# Altium footprint library WREL_AD10_Ben.PcbLib: 135 footprints (part 8 of 9)
Each footprint in its own frame and in the unit in brackets; x right, y up, seen from the top. Pads: shape width x height; smd on the part's side, far side on the other; paste and mask are expansions set on the pad; w line width, h text height; cw(c..) or ccw(c..) is an arc to the next point about the centre after c.
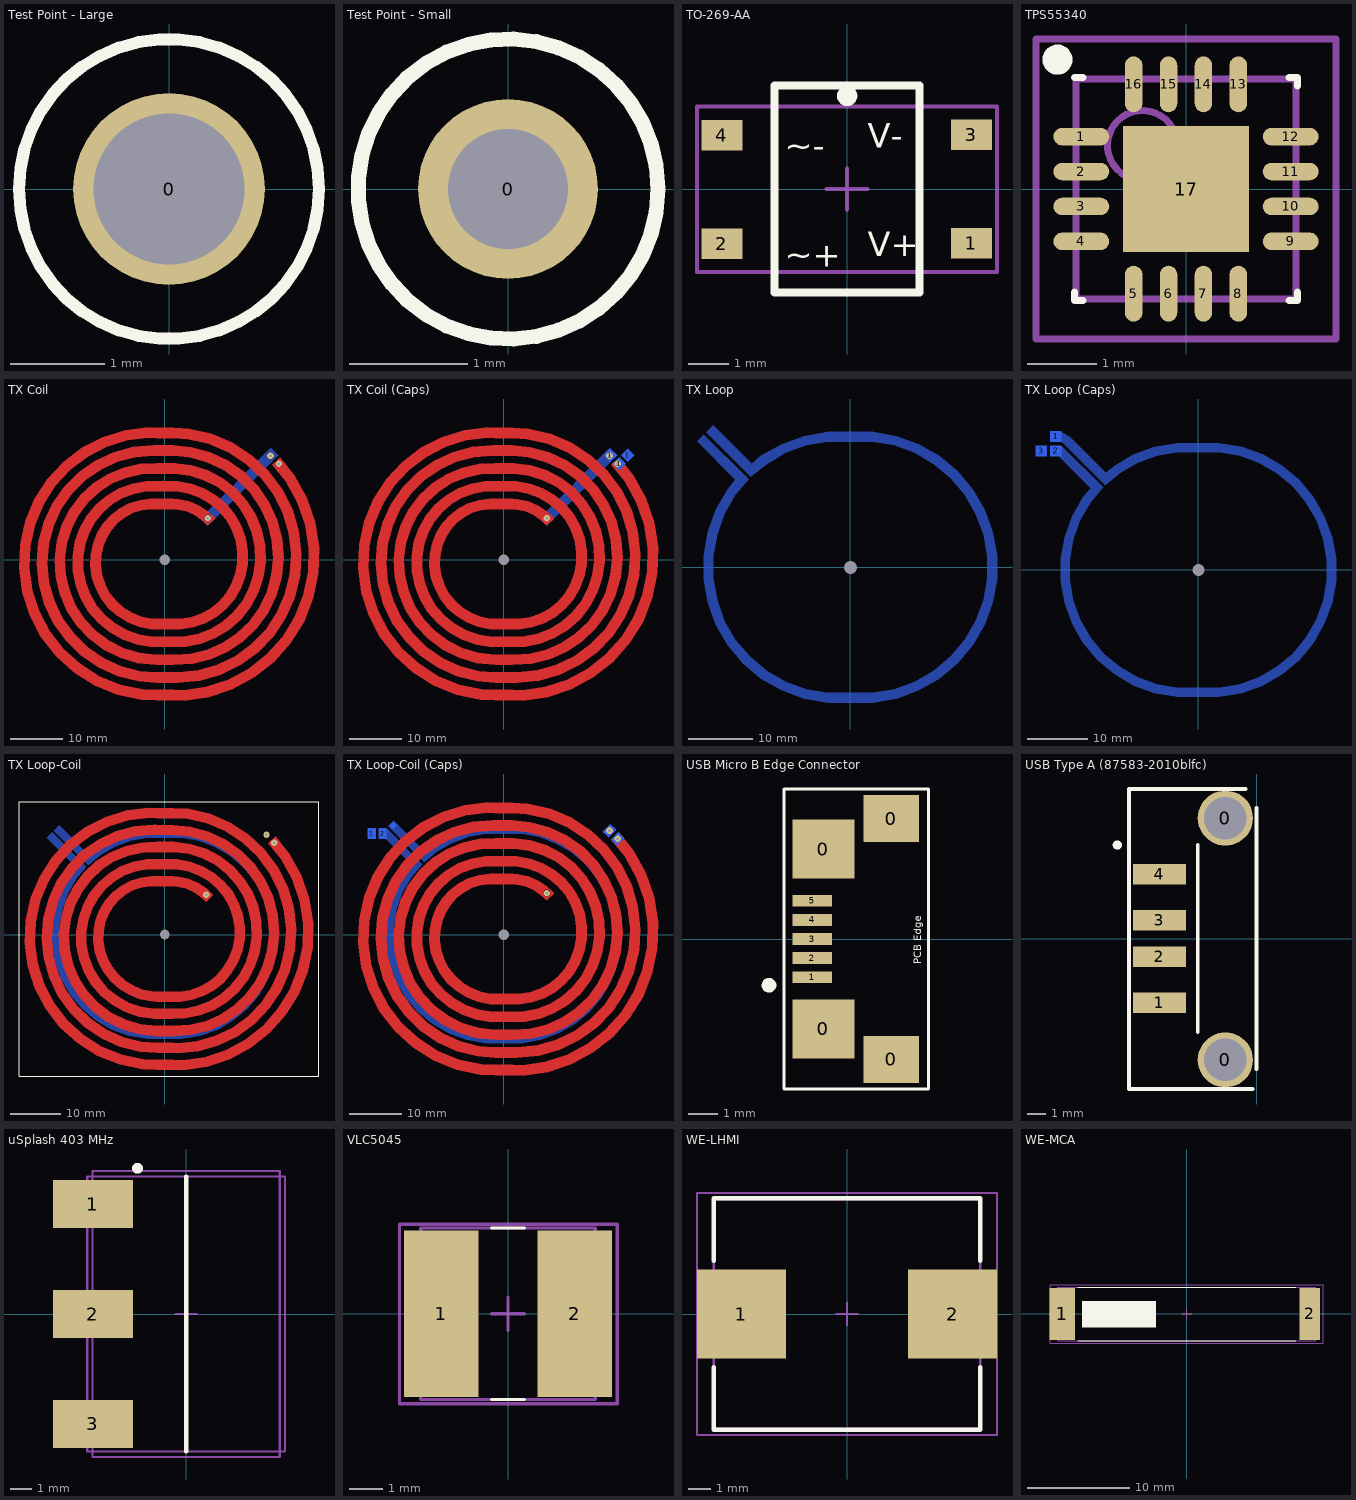
[diagram p7: the footprints below, top view; thin cyan lines are the x and y axes]

## Test Point - Large [mil] "Test Point, 63mil hole, example DK: 5012K-ND"
pads (1):
  round 80 hole 63: 0(0,0)
Top Overlay:
  circle w5: c0,0 r62.5

## Test Point - Small [mil] "Test Point, 40mil hole, example DK: 5000K-ND"
pads (1):
  round 60 hole 40: 0(0,0)
Top Overlay:
  circle w5: c0,0 r50

## TO-269-AA [mm]
pads (4):
  rect 1x0.75 smd: 1(3.056,-1.33) 2(-3.071,-1.345) 3(3.056,1.337) 4(-3.071,1.322)
Top Overlay:
  circle w0.25: c0.002,2.286 r0.125
  lines w0.2: -1.778,-2.54 -1.778,2.54 1.778,2.54 1.778,-2.54 -1.778,-2.54
  text "V+" at 0.508,-1.651 h0.6
  text "V-" at 0.508,1.016 h0.6
  text "~+" at -1.524,-1.905 h0.6
  text "~-" at -1.524,0.762 h0.6
Mechanical 15:
  lines w0.1: -0.5,0 0.5,0 ; 0,-0.5 0,0.5 ; -3.683,-2.041 -3.683,2.022 3.683,2.022 3.683,-2.041 -3.683,-2.041
3D body: height 1.55, standoff 0, extent 2.007,0.991 3.531,1.651
3D body: height 1.55, standoff 0, extent 2.007,-1.676 3.531,-1.016
3D body: height 1.55, standoff 0, extent -3.53,-1.676 -2.006,-1.016
3D body: height 1.55, standoff 0, extent -3.531,0.991 -2.007,1.651
3D body: height 2.65, standoff 0.15, extent -2.007,-2.362 2.007,2.362

## TPS55340 [mm] "TPS55340"
height 0.8
pads (17):
  oval 0.8x0.25 smd: 1(-1.5,0.75) 2(-1.5,0.25) 3(-1.5,-0.25) 4(-1.5,-0.75) 9(1.5,-0.75) 10(1.5,-0.25) 11(1.5,0.25) 12(1.5,0.75)
  oval 0.25x0.8 smd: 5(-0.75,-1.5) 6(-0.25,-1.5) 7(0.25,-1.5) 8(0.75,-1.5) 13(0.75,1.5) 14(0.25,1.5) 15(-0.25,1.5) 16(-0.75,1.5)
  rect 1.8x1.8 smd: 17(0,0)
Top Overlay:
  circle w0.25: c-1.843,1.854 r0.091
  lines w0.1: -1.6,-1.475 -1.6,-1.6 -1.475,-1.6 ; -1.6,1.6 -1.475,1.6 ; 1.475,-1.6 1.6,-1.6 1.6,-1.475 ; 1.475,1.6 1.6,1.6 1.6,1.475
Mechanical 13:
  circle w0.1: c-0.625,0.625 r0.5
  lines w0.1: -1.575,-1.575 -1.575,1.575 1.575,1.575 1.575,-1.575 -1.575,-1.575
Mechanical 15:
  lines w0.1: -0.5,0 0.5,0 ; 0,-0.5 0,0.5 ; -2.15,-2.15 -2.15,2.15 2.15,2.15 2.15,-2.15 -2.15,-2.15
3D body: height 0.8, standoff 0.05, extent -1.575,-1.575 1.575,1.575

## TX Coil [mm] "Songnan TX Coil (5.78 x 5.25cm) only"
pads (1):
  round 0 hole 2 unplated: 0(0,0)
via 21.946,18.44 diameter 1.27 hole 0.508
via 20.396,20.015 diameter 1.27 hole 0.508
via 8.306,8.001 diameter 1.27 hole 0.508
Top Layer:
  region: 412 vertices and 1 holes, not listed, extent -28.092,-27.178 29.743,25.476
Bottom Layer:
  region: 20.536,21.5 21.87,20.142 8.369,6.642 8.242,6.642 6.909,7.975 20.181,21.274 20.409,21.501 hole: 20.396,20.663 20.148,20.613 19.938,20.473 19.798,20.263 19.749,20.015 19.798,19.767 19.938,19.557 20.148,19.417 20.396,19.368 20.644,19.417 20.854,19.557 20.994,19.767 21.044,20.015 20.994,20.263 20.854,20.473 20.644,20.613 hole: 8.306,8.648 8.058,8.599 7.848,8.459 7.708,8.249 7.658,8.001 7.708,7.753 7.848,7.543 8.058,7.403 8.306,7.354 8.554,7.403 8.764,7.543 8.904,7.753 8.953,8.001 8.904,8.249 8.764,8.459 8.554,8.599

## TX Coil (Caps) [mil] "Songnan TX Coil (5.78 x 5.25cm) with series and parallel caps"
pads (4):
  round 0 hole 78.74 unplated: 0(0,0)
  rect 70x70 smd far side rot 135: 1(810.41,791.65) 1(876.17,725.89) 1(942.28,792)
via 327,315 diameter 50 hole 20
via 803,788 diameter 50 hole 20
via 864,726 diameter 50 hole 20
Top Layer:
  region: 393 vertices and 0 holes, not listed, extent -1106,-1070 1171,1003
Bottom Layer:
  region: 808.49,846.47 812.08,842.81 810.41,841.14 760.91,791.65 807.79,744.77 807.79,739.77 329.5,261.48 324.5,261.48 271.99,313.99 794.54,837.54 803.49,846.49 hole: 327,340.49 317.25,338.55 308.98,333.02 303.45,324.75 301.51,315 303.45,305.25 308.98,296.98 317.25,291.45 327,289.51 336.75,291.45 345.02,296.98 350.55,305.25 352.49,315 350.55,324.75 345.02,333.02 336.75,338.55

## TX Loop [mm] "Songnan TX Loop (4.53 x 4.18cm) only"
pads (1):
  round 0 hole 2 unplated: 0(0,0)
Bottom Layer:
  region: -15.24,15.977 -13.792,17.196 -10.617,19.025 -7.188,20.269 -3.581,20.904 3.556,20.904 7.163,20.269 10.592,19.025 13.767,17.196 16.586,14.834 18.923,12.04 20.752,8.865 22.022,5.41 22.657,1.829 22.657,-1.829 22.022,-5.41 20.752,-8.865 18.923,-12.04 16.586,-14.834 13.767,-17.196 10.592,-19.025 7.163,-20.269 3.556,-20.904 -3.581,-20.904 -7.188,-20.269 -10.617,-19.025 -13.792,-17.196 -16.586,-14.834 -18.948,-12.04 -20.777,-8.865 -22.022,-5.41 -22.657,-1.829 -22.657,1.829 -22.022,5.41 -20.777,8.865 -18.948,12.04 -17.729,13.487 -23.673,19.431 -22.606,20.498 -15.697,13.589 -17.729,11.176 -19.431,8.23 -20.574,5.029 -21.184,1.676 -21.184,-1.676 -20.574,-5.029 -19.431,-8.23 -17.729,-11.176 -15.545,-13.767 -12.929,-15.951 -9.982,-17.653 -6.782,-18.821 -3.454,-19.406 3.429,-19.406 6.782,-18.821 9.957,-17.653 12.903,-15.951 15.519,-13.767 17.704,-11.176 19.406,-8.23 20.574,-5.029 21.158,-1.676 21.158,1.676 20.574,5.029 19.406,8.23 17.704,11.176 15.519,13.767 12.903,15.951 9.957,17.653 6.782,18.821 3.429,19.406 -3.454,19.406 -6.782,18.821 -9.982,17.653 -12.929,15.951 -15.342,13.945 -22.25,20.853 -21.184,21.92

## TX Loop (Caps) [mil] "Songnan TX Loop (4.53 x 4.18cm) with series and parallel caps"
pads (4):
  round 0 hole 78.74 unplated: 0(0,0)
  rect 70x70 smd far side: 1(-924.74,865.32) 2(-924.74,771.82) 3(-1017.74,771.82)
Bottom Layer:
  region: -926.67,871 -890,831 -867.33,813 -832,861 -894,900
  region: -600,629 -543,677 -418,749 -283,798 -141,823 140,823 282,798 417,749 542,677 653,584 745,474 817,349 867,213 892,72 892,-72 867,-213 817,-349 745,-474 653,-584 542,-677 417,-749 282,-798 140,-823 -141,-823 -283,-798 -418,-749 -543,-677 -653,-584 -746,-474 -818,-349 -867,-213 -892,-72 -892,72 -867,213 -818,349 -746,474 -698,531 -899.2,732.2 -897.29,736.82 -889.74,736.82 -889.74,800.2 -885.12,802.12 -618,535 -698,440 -765,324 -810,198 -834,66 -834,-66 -810,-198 -765,-324 -698,-440 -612,-542 -509,-628 -393,-695 -267,-741 -136,-764 135,-764 267,-741 392,-695 508,-628 611,-542 697,-440 764,-324 810,-198 833,-66 833,66 810,198 764,324 697,440 611,542 508,628 392,695 267,741 135,764 -136,764 -267,741 -393,695 -509,628 -604,549 -867.65,812.65 -867.33,813 -832,861 -833.91,862.2 -833.43,862.43

## TX Loop-Coil [mm] "Songnan TX Loop (4.53 x 4.18cm) and Coil (5.78 x 5.25cm) only"
pads (1):
  round 0 hole 2 unplated: 0(0,0)
via 21.946,18.44 diameter 1.27 hole 0.508
via 20.396,20.015 diameter 1.27 hole 0.508
via 8.306,8.001 diameter 1.27 hole 0.508
Top Layer:
  region: 393 vertices and 0 holes, not listed, extent -28.092,-27.178 29.743,25.476
Mid-Layer 1:
  region: 20.536,21.5 21.87,20.142 8.369,6.642 8.242,6.642 6.909,7.975 20.181,21.274 20.409,21.501
Bottom Layer:
  region: -15.24,15.977 -13.792,17.196 -10.617,19.025 -7.188,20.269 -3.581,20.904 3.556,20.904 7.163,20.269 10.592,19.025 13.767,17.196 16.586,14.834 18.923,12.04 20.752,8.865 22.022,5.41 22.657,1.829 22.657,-1.829 22.022,-5.41 20.752,-8.865 18.923,-12.04 16.586,-14.834 13.767,-17.196 10.592,-19.025 7.163,-20.269 3.556,-20.904 -3.581,-20.904 -7.188,-20.269 -10.617,-19.025 -13.792,-17.196 -16.586,-14.834 -18.948,-12.04 -20.777,-8.865 -22.022,-5.41 -22.657,-1.829 -22.657,1.829 -22.022,5.41 -20.777,8.865 -18.948,12.04 -17.729,13.487 -23.673,19.431 -22.606,20.498 -15.697,13.589 -17.729,11.176 -19.431,8.23 -20.574,5.029 -21.184,1.676 -21.184,-1.676 -20.574,-5.029 -19.431,-8.23 -17.729,-11.176 -15.545,-13.767 -12.929,-15.951 -9.982,-17.653 -6.782,-18.821 -3.454,-19.406 3.429,-19.406 6.782,-18.821 9.957,-17.653 12.903,-15.951 15.519,-13.767 17.704,-11.176 19.406,-8.23 20.574,-5.029 21.158,-1.676 21.158,1.676 20.574,5.029 19.406,8.23 17.704,11.176 15.519,13.767 12.903,15.951 9.957,17.653 6.782,18.821 3.429,19.406 -3.454,19.406 -6.782,18.821 -9.982,17.653 -12.929,15.951 -15.342,13.945 -22.25,20.853 -21.184,21.92
Top Overlay:
  lines w0.127: -29.235,-28.346 -29.235,26.619 30.937,26.619 30.937,-28.346 -29.235,-28.346

## TX Loop-Coil (Caps) [mil] "Songnan TX Loop (4.53 x 4.18cm) and Coil (5.78 x 5.25cm) with Capacitor banks"
pads (6):
  round 0 hole 78.74 unplated: 0(0,0)
  rect 60x80 smd far side: 1(-1001.17,766.98) 2(-920,767)
  rect 40x40 smd far side rot 135 paste-40 mask-40: 2(-840,828)
  rect 80x60 smd far side rot 45: ""(803,788) ""(864,726)
via 327,315 diameter 50 hole 20
via 803,788 diameter 50 hole 20
via 864,726 diameter 50 hole 20
Top Layer:
  region: 412 vertices and 1 holes, not listed, extent -1106,-1070 1171,1003
Mid-Layer 1:
  region: 808.49,846.47 861.01,793.01 861.02,793 861.01,792.99 329.5,261.48 324.5,261.48 271.99,313.99 794.54,837.54 803.49,846.49 hole: 803,813.49 793.25,811.55 784.98,806.02 779.45,797.75 777.51,788 779.45,778.25 784.98,769.98 793.25,764.45 803,762.51 812.75,764.45 821.02,769.98 826.55,778.25 828.49,788 826.55,797.75 821.02,806.02 812.75,811.55 hole: 327,340.49 317.25,338.55 308.98,333.02 303.45,324.75 301.51,315 303.45,305.25 308.98,296.98 317.25,291.45 327,289.51 336.75,291.45 345.02,296.98 350.55,305.25 352.49,315 350.55,324.75 345.02,333.02 336.75,338.55
Bottom Layer:
  region: -600,629 -543,677 -418,749 -283,798 -141,823 140,823 282,798 417,749 542,677 653,584 745,474 817,349 867,213 892,72 892,-72 867,-213 817,-349 745,-474 653,-584 542,-677 417,-749 282,-798 140,-823 -141,-823 -283,-798 -418,-749 -543,-677 -653,-584 -746,-474 -818,-349 -867,-213 -892,-72 -892,72 -867,213 -818,349 -746,474 -698,531 -891.17,724.17 -890,727 -890,800.47 -885.38,802.38 -618,535 -698,440 -765,324 -810,198 -834,66 -834,-66 -810,-198 -765,-324 -698,-440 -612,-542 -509,-628 -393,-695 -267,-741 -136,-764 135,-764 267,-741 392,-695 508,-628 611,-542 697,-440 764,-324 810,-198 833,-66 833,66 810,198 764,324 697,440 611,542 508,628 392,695 267,741 135,764 -136,764 -267,741 -393,695 -509,628 -604,549 -876,821 -834,863

## USB Micro B Edge Connector [mm] "Surface Mount, Right Angle, Horizontal"
height 2.5
pads (9):
  rect 2.108x2.007 smd: 0(-7.953,-3.059) 0(-7.953,3.059)
  rect 1.9x1.6 smd: 0(-5.642,-4.1) 0(-5.642,4.1)
  rect 1.35x0.4 smd: 1(-8.333,-1.3) 2(-8.333,-0.65) 3(-8.333,0) 4(-8.333,0.65) 5(-8.333,1.3)
Top Overlay:
  circle w0.25: c-9.802,-1.575 r0.125
  lines w0.1: -9.296,-5.105 -9.296,5.105 -4.369,5.105 -4.369,-5.105 -9.296,-5.105
  text "PCB Edge" at -4.623,-0.864 h0.25
3D body: height 2.71, standoff -0.23, extent -8.957,-4.4 -3.226,4.4

## USB Type A (87583-2010blfc) [mm] "Connector; USB1.1, Type A, SM; 4 Position; Right Angle"
height 4.5
pads (6):
  round 3 hole 2.3: 0(-1.721,-6.596) 0(-1.721,6.545)
  rect 2.88x1.12 smd: 1(-5.3,-3.5) 2(-5.3,-1) 3(-5.3,1) 4(-5.3,3.5)
Top Overlay:
  circle w0.25: c-7.593,5.08 r0.125
  lines w0.2: -6.96,-8.179 -0.229,-8.179 ; -6.96,-8.128 -6.96,8.128 -0.61,8.128 ; -3.226,-5.08 -3.226,5.08 ; -0.025,-7.112 -0.025,7.112
Mechanical 1:
  lines w0.1: 0,-6 0,6
  text "PCB Edge" at 0.473,-5.173 h0.25
3D body: height 7.65, standoff -2.66, extent -6.413,-7.239 8.496,7.261

## uSplash 403 MHz [mm] "Chip Antenna"
height 2.62
pads (3):
  rect 3.7x2.2 smd: 1(-4.307,5.08) 2(-4.307,0) 3(-4.307,-5.08)
Top Overlay:
  circle w0.25: c-2.25,6.73 r0.125
  lines w0.2: 0,-6.35 0,6.35 0,-6.35
Mechanical 13:
  lines w0.1: -4.57,-6.35 -4.57,6.35 4.57,6.35 4.57,-6.35 -4.57,-6.35
Mechanical 15:
  lines w0.1: -0.5,0 0.5,0 ; 0,-0.5 0,0.5 ; -4.325,-6.6 -4.325,6.6 4.325,6.6 4.325,-6.6 -4.325,-6.6
3D body: height 2.62, standoff 0, extent -4.57,-6.35 4.57,6.35

## VLC5045 [mm] "VLC5045"
height 4
pads (2):
  rect 2.25x5.05 smd: 1(-2.025,0) 2(2.025,0)
Top Overlay:
  lines w0.1: -0.5,-2.6 0.5,-2.6 ; -0.5,2.6 0.5,2.6
Mechanical 13:
  lines w0.1: -2.65,-2.6 2.65,-2.6 2.65,2.6 -2.65,2.6 -2.65,-2.6
Mechanical 15:
  lines w0.1: -0.5,0 0.5,0 ; 0,-0.5 0,0.5 ; -3.289,-2.73 3.315,-2.73 3.315,2.718 -3.289,2.718 -3.289,-2.73
3D body: height 4, standoff 0, extent -2.65,-2.6 2.65,2.6

## WE-LHMI [mm] "WE-LHMI"
height 4
pads (2):
  rect 4x4 smd: 1(-4.75,0) 2(4.75,0)
Top Overlay:
  lines w0.2: -6,-2.4 -6,-5.2 6,-5.2 6,-2.4 ; -6,2.4 -6,5.2 6,5.2 6,2.4
Mechanical 13:
  lines w0.1: -6,-5.15 6,-5.15 6,5.15 -6,5.15 -6,-5.15
Mechanical 15:
  lines w0.1: -0.5,0 0.5,0 ; 0,-0.5 0,0.5 ; -6.75,-5.45 6.75,-5.45 6.75,5.45 -6.75,5.45 -6.75,-5.45
3D body: height 4, standoff 0, extent -6,-5.15 6,5.15

## WE-MCA [mm] "ANTENNA MULTILAYER SMD"
height 1.3
pads (2):
  rect 2.5x5.1 smd: 1(-12.187,0)
  rect 2x5.1 smd: 2(12.04,0)
Top Overlay:
  rectangle: -10.249,-1.308 -3.01,1.27
  lines w0.1: -10.65,-2.6 10.65,-2.6 ; -10.65,2.6 10.65,2.6
Mechanical 13:
  lines w0.1: -12.6,-2.6 12.6,-2.6 12.6,2.6 -12.6,2.6 -12.6,-2.6
Mechanical 15:
  lines w0.1: -0.5,0 0.5,0 ; 0,-0.5 0,0.5 ; -13.35,-2.85 13.35,-2.85 13.35,2.85 -13.35,2.85 -13.35,-2.85
3D body: height 0.6, standoff -0.6, extent -12.5,-2.5 12.5,2.5